# EAGLE library part MC14094BDG (library ON_Semiconductor_By_element14_Batch_1)
8-Stage Shift/Store Register with Three-State Outputs
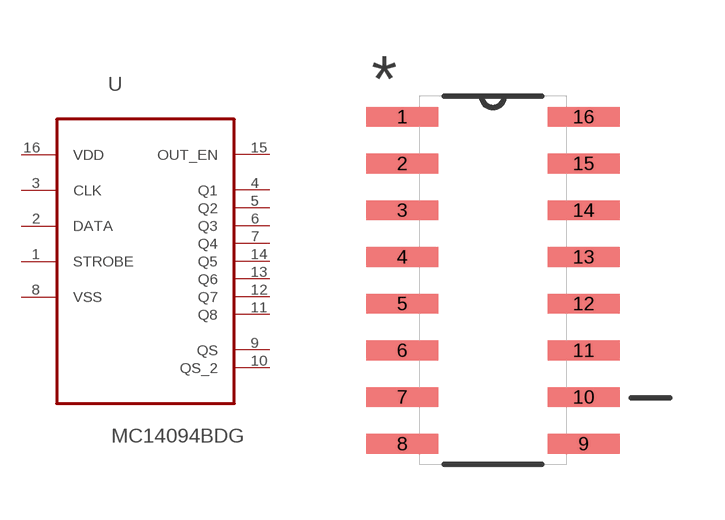
[diagram p266: symbol with the pads of SOIC127P600X175-16N; footprint SOIC127P600X175-16N]

Designator prefix U

## MC14094BDG (MPN: MC14094BDG; OC_FARNELL: 9666516; OC_NEWARK: 45J1092; PACKAGE: SOIC-16; SUPPLIER: ON SEMICONDUCTOR)  [SOIC127P600X175-16N]
1  STROBE  pwr
2  DATA  in
3  CLK  in
4  Q1  out
5  Q2  out
6  Q3  out
7  Q4  out
8  VSS  pas
9  QS  out
10  QS_2  out
11  Q8  out
12  Q7  out
13  Q6  out
14  Q5  out
15  OUT_EN  out
16  VDD  pwr

## Footprint SOIC127P600X175-16N (pad centres in mm)
smd 1.956 x 0.533: 1 -2.464,4.445; 2 -2.464,3.175; 3 -2.464,1.905; 4 -2.464,0.635; 5 -2.464,-0.635; 6 -2.464,-1.905; 7 -2.464,-3.175; 8 -2.464,-4.445; 9 2.464,-4.445; 10 2.464,-3.175; 11 2.464,-1.905; 12 2.464,-0.635; 13 2.464,0.635; 14 2.464,1.905; 15 2.464,3.175; 16 2.464,4.445